# Altium schematic symbol library SchlibMP.SchLib: 8 symbols
Pins are listed as number, name and electrical type; pins without a type are passive.

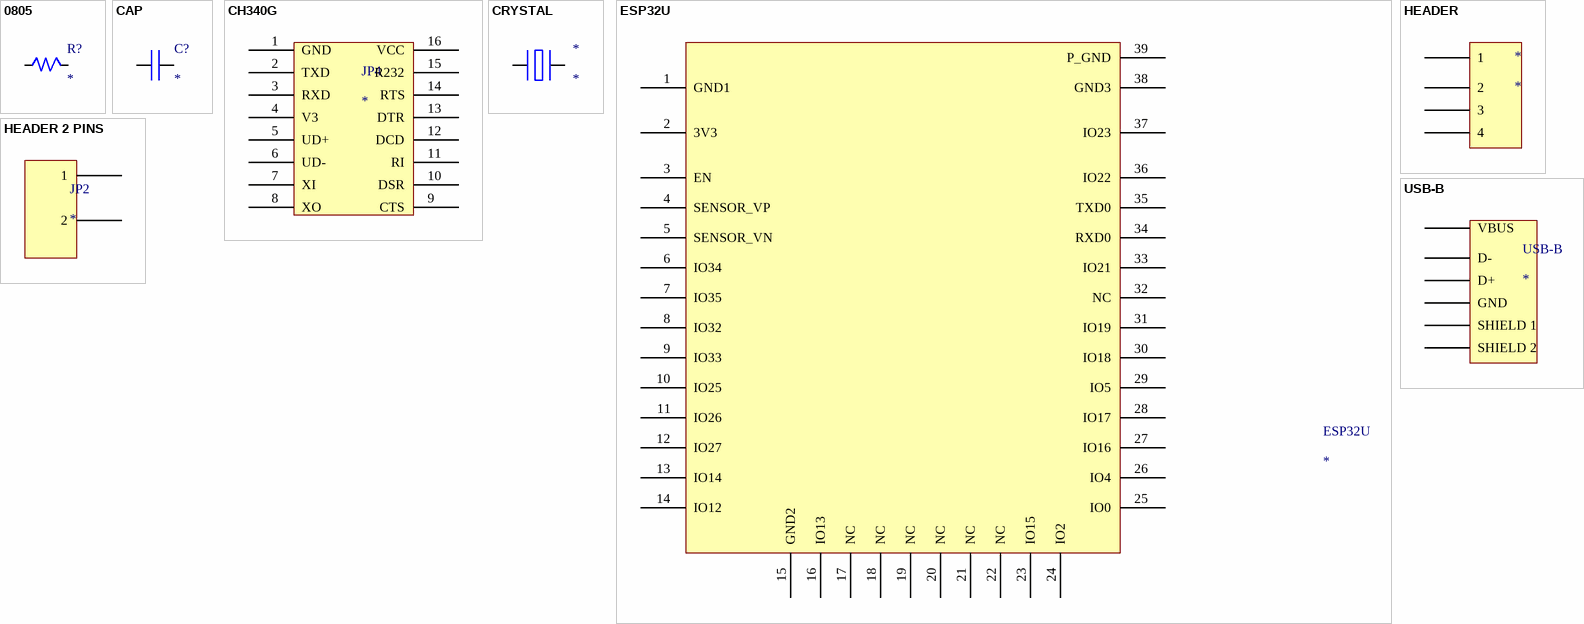
[diagram p0: symbols 0805 to USB-B]

## 0805
designator R?
MANUFACTURER: YAGEO; MANUFACTURER PART: RC0805FR-0710KL; SUPPLIER PART NUMBER: C84376; SUPPLIER: LCSC
footprint Resistor
pins: 1, 2

## CAP
designator C?
MANUFACTURER: PANASONIC; MANUFACTURER PART: EEHZA1V470P; SUPPLIER PART NUMBER: C178639; SUPPLIER: LCSC
footprint Capacitor
pins: 1, 2

## CH340G
designator JP4
MANUFACTURER: WCH; MANUFACTURER PART: CH340G; SUPPLIER PART NUMBER: C14267; SUPPLIER: LCSC
footprint CH340G - duplicate1
pins: 1 GND, 2 TXD, 3 RXD, 4 V3, 5 UD+, 6 UD-, 7 XI, 8 XO, 9 CTS, 10 DSR, 11 RI, 12 DCD, 13 DTR, 14 RTS, 15 R232, 16 VCC

## CRYSTAL
designator *
MANUFACTURER: EPSON; MANUFACTURER PART: Q13FC13500004; SUPPLIER PART NUMBER: C32346; SUPPLIER: LCSC
footprint CRYSTAL
pins: 1, 2

## ESP32U
designator ESP32U
MANUFACTURER: Ai-Thinker; MANUFACTURER PART: ESP32-S; SUPPLIER PART NUMBER: C277944; SUPPLIER: LCSC
footprint ESP32U
pins: 1 GND1, 2 3V3, 3 EN, 4 SENSOR_VP, 5 SENSOR_VN, 6 IO34, 7 IO35, 8 IO32, 9 IO33, 10 IO25, 11 IO26, 12 IO27, 13 IO14, 14 IO12, 15 GND2, 16 IO13, 17 NC, 18 NC, 19 NC, 20 NC, 21 NC, 22 NC, 23 IO15, 24 IO2, 25 IO0, 26 IO4, 27 IO16, 28 IO17, 29 IO5, 30 IO18, 31 IO19, 32 NC, 33 IO21, 34 RXD0, 35 TXD0, 36 IO22, 37 IO23, 38 GND3, 39 P_GND

## HEADER
designator *
MANUFACTURER: JST Sales America Inc.; MANUFACTURER PART: B4B-XH-A; SUPPLIER PART NUMBER: 455-B4B-XH-A-ND; SUPPLIER: DIGIKEY
footprint HEADER
pins: 1, 2, 3, 4

## HEADER 2 PINS
designator JP2
MANUFACTURER: JST Sales America Inc.; MANUFACTURER PART: B2B-XH-A; SUPPLIER PART NUMBER: 455-B2B-XH-A-ND; SUPPLIER: DIGIKEY
footprint HEADER 2 PINS - duplicate
pins: 1, 2

## USB-B
designator USB-B
MANUFACTURER: Switchcraft Inc.; MANUFACTURER PART: RAHUB20; SUPPLIER PART NUMBER: 137-RAHUB20-ND; SUPPLIER: DIGIKEY
footprint USB-B - duplicate1
pins: 1 VBUS, 2 D-, 3 D+, 4 GND, 5 SHIELD 1, 6 SHIELD 2